# EAGLE library part AP1509-50 (library buckReg)
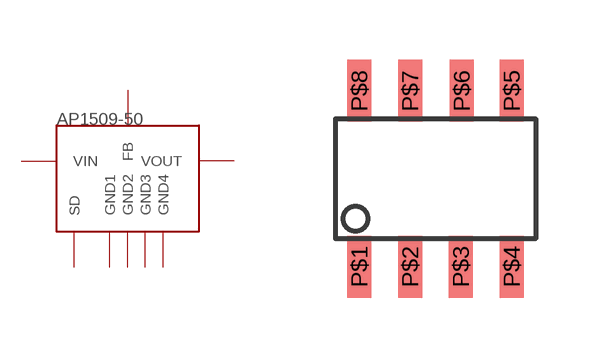
[diagram p0: symbol with the pads of SOP-8L; footprint SOP-8L]

Designator prefix -

## AP1509-50  [SOP-8L]
P$1  VIN  pwr
P$2  VOUT  sup
P$3  FB
P$4  SD
P$5  GND1
P$6  GND2
P$7  GND3
P$8  GND4

## Footprint SOP-8L (pad centres in mm)
smd 0.6 x 1.55: P$1 -1.905,-2.2; P$2 -0.635,-2.2; P$3 0.635,-2.2; P$4 1.905,-2.2; P$5 1.905,2.2; P$6 0.655,2.2; P$7 -0.635,2.2; P$8 -1.905,2.2